# Altium footprint library MP_MB_2015-01-222_B-21.PcbLib: 13 footprints
Each footprint in its own frame and in the unit in brackets; x right, y up, seen from the top. Pads: shape width x height; smd on the part's side, far side on the other; paste and mask are expansions set on the pad; w line width, h text height; cw(c..) or ccw(c..) is an arc to the next point about the centre after c.
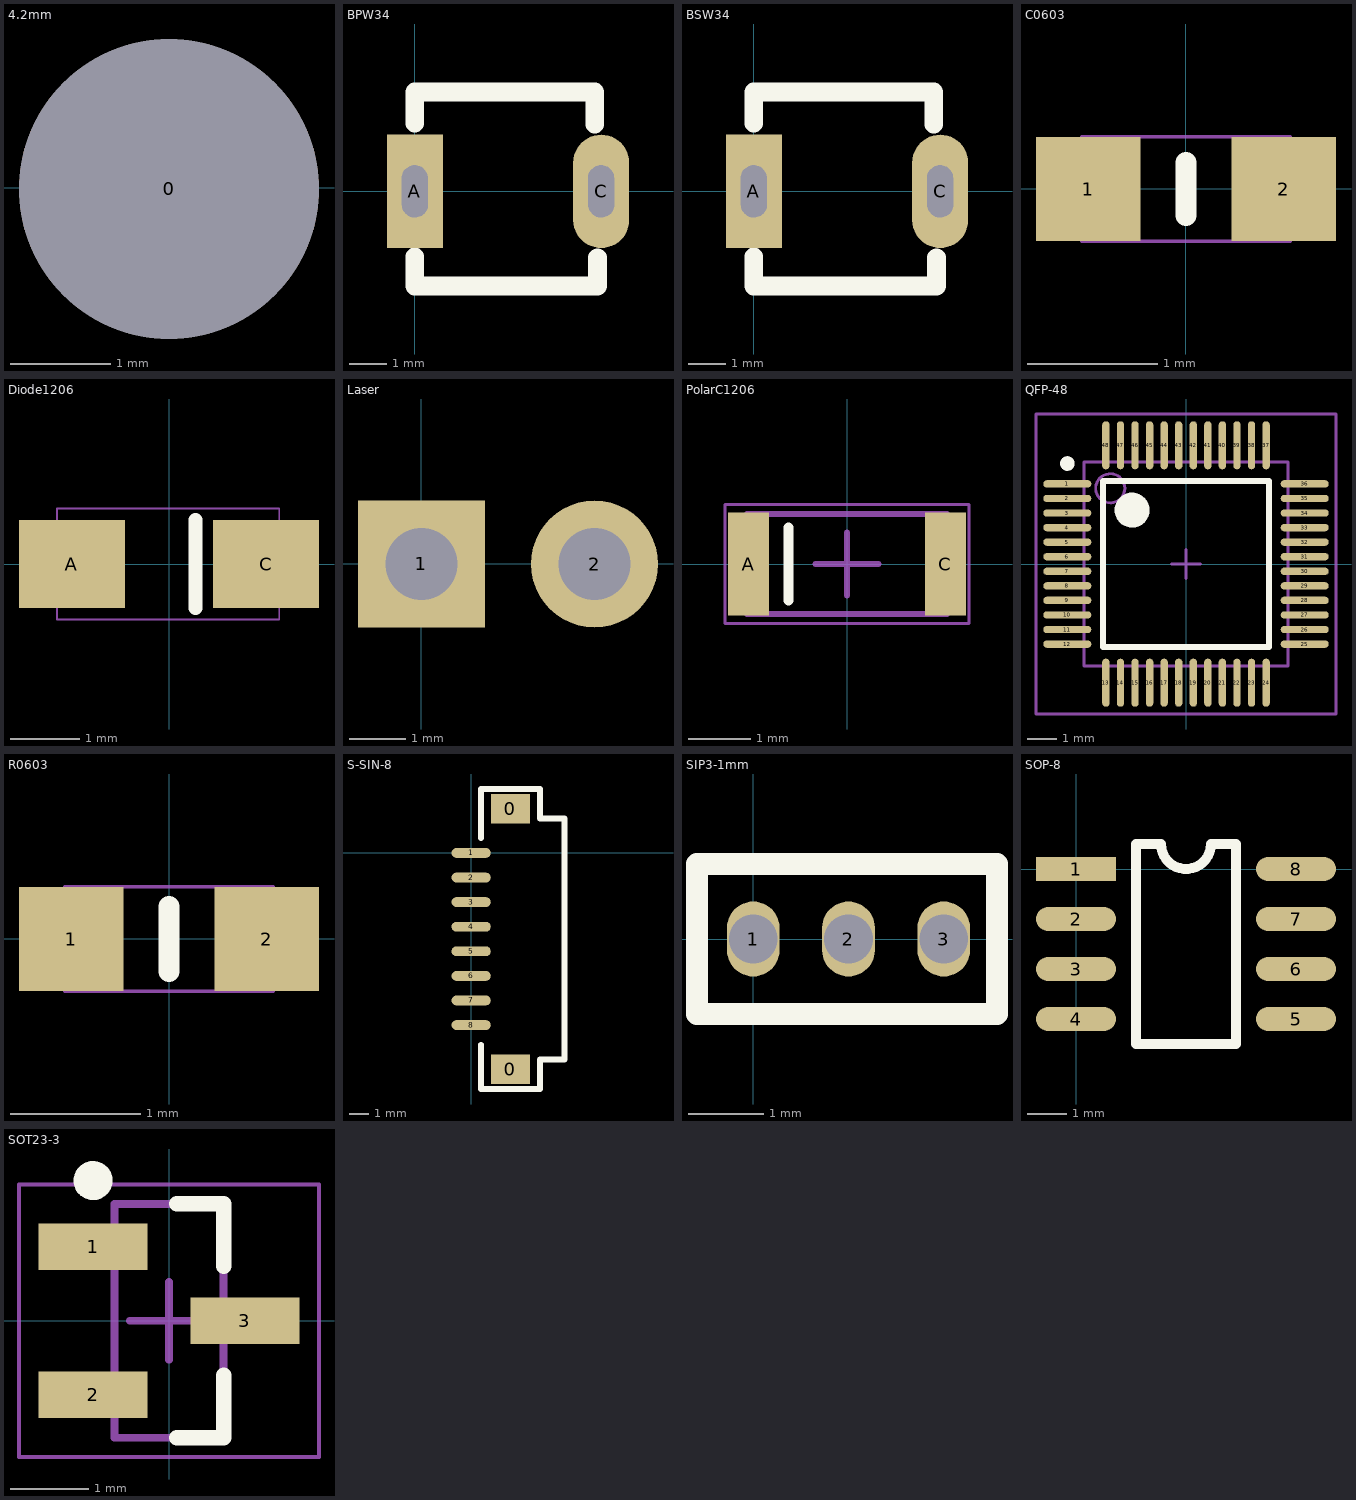
[diagram p0: the footprints below, top view; thin cyan lines are the x and y axes]

## 4.2mm [mm]
pads (1):
  round 3 hole 3: 0(-8.336,-0.013)

## BPW34 [mm]
pads (2):
  rect 1.5x3.048 hole 0.7 slot 1.4 at 90.5 deg: A(0,0)
  oval 1.5x3.048 hole 0.7 slot 1.4 at 90.5 deg: C(5,0)
Top Overlay:
  lines w0.5: 0,-1.753 0,-2.54 4.902,-2.54 4.902,-1.778 ; 0,1.829 0,2.667 4.826,2.667 4.826,1.803

## BSW34 [mm]
pads (2):
  rect 1.5x3.048 hole 0.7 slot 1.4 at 90.5 deg: A(0,0)
  oval 1.5x3.048 hole 0.7 slot 1.4 at 90.5 deg: C(5,0)
Top Overlay:
  lines w0.5: 0,-1.753 0,-2.54 4.902,-2.54 4.902,-1.778 ; 0,1.829 0,2.667 4.826,2.667 4.826,1.803

## C0603 [mm]
pads (2):
  rect 0.8x0.8 smd: 1(-0.75,0) 2(0.75,0)
Top Overlay:
  lines w0.16: 0,-0.203 0,0.203
Mechanical 13:
  lines w0.025: -0.8,-0.4 -0.8,0.4 0.8,0.4 0.8,-0.4 -0.8,-0.4
3D body: height 0.8, standoff 0, extent -0.8,-0.4 0.8,0.4

## Diode1206 [mil]
pads (2):
  rect 60x50 smd: A(-55,0) C(55,0)
Top Overlay:
  lines w7.87: 15,-25 15,25
Mechanical 13:
  lines w1: -63.44,-31.5 -63.44,31.5 62.54,31.5 62.54,-31.5 -63.44,-31.5
3D body: height 62.99, standoff 0, extent -63.44,-31.5 62.54,31.5

## Laser [mil]
pads (2):
  rect 88x88 hole 50: 1(0,0)
  round 88 hole 50: 2(120,0)

## PolarC1206 [mm]
pads (2):
  rect 0.65x1.65 smd: A(-1.575,0) C(1.575,0)
Top Overlay:
  lines w0.16: -0.94,-0.584 -0.94,0.584
Mechanical 13:
  lines w0.1: -1.6,-0.8 1.6,-0.8 1.6,0.8 -1.6,0.8 -1.6,-0.8
Mechanical 15:
  lines w0.05: -1.95,-0.95 1.95,-0.95 1.95,0.95 -1.95,0.95 -1.95,-0.95
  lines w0.1: -0.5,0 0.5,0 ; 0,-0.5 0,0.5
3D body: height 0.6, standoff 0, extent -1.6,-0.8 -1.3,0.8
3D body: height 0.6, standoff 0, extent -1.3,-0.8 1.6,0.8

## QFP-48 [mil] "TSQFP, 48-Leads, Body 9.0x9.0mm (max), Pitch 0.50mm, IPC Medium Density"
height 62.99
pads (48):
  oval 65x10 smd: 1(-160.43,108.27) 2(-160.43,88.58) 3(-160.43,68.9) 4(-160.43,49.21) 5(-160.43,29.53) 6(-160.43,9.84) 7(-160.43,-9.84) 8(-160.43,-29.53) 9(-160.43,-49.21) 10(-160.43,-68.9) 11(-160.43,-88.58) 12(-160.43,-108.27) 25(160.43,-108.27) 26(160.43,-88.58) 27(160.43,-68.9) 28(160.43,-49.21) 29(160.43,-29.53) 30(160.43,-9.84) 31(160.43,9.84) 32(160.43,29.53) 33(160.43,49.21) 34(160.43,68.9) 35(160.43,88.58) 36(160.43,108.27)
  oval 10x65 smd: 13(-108.27,-160.43) 14(-88.58,-160.43) 15(-68.9,-160.43) 16(-49.21,-160.43) 17(-29.53,-160.43) 18(-9.84,-160.43) 19(9.84,-160.43) 20(29.53,-160.43) 21(49.21,-160.43) 22(68.9,-160.43) 23(88.58,-160.43) 24(108.27,-160.43) 37(108.27,160.43) 38(88.58,160.43) 39(68.9,160.43) 40(49.21,160.43) 41(29.53,160.43) 42(9.84,160.43) 43(-9.84,160.43) 44(-29.53,160.43) 45(-49.21,160.43) 46(-68.9,160.43) 47(-88.58,160.43) 48(-108.27,160.43)
Top Overlay:
  circle w9.84: c-160.43,135.83 r4.92
  circle w23.62: c-72.83,72.83 r11.81
  lines w7.87: -112.2,-112.2 -112.2,112.2 112.2,112.2 112.2,-112.2 -112.2,-112.2
Mechanical 13:
  circle w3.94: c-102.36,102.36 r19.68
  lines w3.94: -137.8,-137.8 -137.8,137.8 137.8,137.8 137.8,-137.8 -137.8,-137.8
Mechanical 15:
  lines w3.94: -19.68,0 19.69,0 ; 0,-19.68 0,19.69 ; -202.76,-202.76 -202.76,202.76 202.76,202.76 202.76,-202.76 -202.76,-202.76
3D body: height 59.06, standoff 1.97, extent -137.8,-137.8 137.8,137.8
3D body: height 11.81, standoff 0, extent -187.01,104.33 -135.83,112.2
3D body: height 11.81, standoff 0, extent -187.01,84.65 -135.83,92.52
3D body: height 11.81, standoff 0, extent -187.01,64.96 -135.83,72.83
3D body: height 11.81, standoff 0, extent -187.01,45.28 -135.83,53.15
3D body: height 11.81, standoff 0, extent -187.01,25.59 -135.83,33.46
3D body: height 11.81, standoff 0, extent -187.01,5.91 -135.83,13.78
3D body: height 11.81, standoff 0, extent -187.01,-13.78 -135.83,-5.91
3D body: height 11.81, standoff 0, extent -187.01,-33.46 -135.83,-25.59
3D body: height 11.81, standoff 0, extent -187.01,-53.15 -135.83,-45.28
3D body: height 11.81, standoff 0, extent -187.01,-72.83 -135.83,-64.96
3D body: height 11.81, standoff 0, extent -187.01,-92.52 -135.83,-84.65
3D body: height 11.81, standoff 0, extent -187.01,-112.2 -135.83,-104.33
3D body: height 11.81, standoff 0, extent 135.83,-112.2 187.01,-104.33
3D body: height 11.81, standoff 0, extent 135.83,-92.52 187.01,-84.65
3D body: height 11.81, standoff 0, extent 135.83,-72.83 187.01,-64.96
3D body: height 11.81, standoff 0, extent 135.83,-53.15 187.01,-45.28
3D body: height 11.81, standoff 0, extent 135.83,-33.46 187.01,-25.59
3D body: height 11.81, standoff 0, extent 135.83,-13.78 187.01,-5.91
3D body: height 11.81, standoff 0, extent 135.83,5.91 187.01,13.78
3D body: height 11.81, standoff 0, extent 135.83,25.59 187.01,33.46
3D body: height 11.81, standoff 0, extent 135.83,45.28 187.01,53.15
3D body: height 11.81, standoff 0, extent 135.83,64.96 187.01,72.83
3D body: height 11.81, standoff 0, extent 135.83,84.65 187.01,92.52
3D body: height 11.81, standoff 0, extent 135.83,104.33 187.01,112.2
3D body: height 11.81, standoff 0, extent 104.33,-187.01 112.2,-135.83
3D body: height 11.81, standoff 0, extent 84.65,-187.01 92.52,-135.83
3D body: height 11.81, standoff 0, extent 64.96,-187.01 72.83,-135.83
3D body: height 11.81, standoff 0, extent 45.28,-187.01 53.15,-135.83
3D body: height 11.81, standoff 0, extent 25.59,-187.01 33.46,-135.83
3D body: height 11.81, standoff 0, extent 5.91,-187.01 13.78,-135.83
3D body: height 11.81, standoff 0, extent -13.78,-187.01 -5.91,-135.83
3D body: height 11.81, standoff 0, extent -33.46,-187.01 -25.59,-135.83
3D body: height 11.81, standoff 0, extent -53.15,-187.01 -45.28,-135.83
3D body: height 11.81, standoff 0, extent -72.83,-187.01 -64.96,-135.83
3D body: height 11.81, standoff 0, extent -92.52,-187.01 -84.65,-135.83
3D body: height 11.81, standoff 0, extent -112.2,-187.01 -104.33,-135.83
3D body: height 11.81, standoff 0, extent 104.33,135.83 112.2,187.01
3D body: height 11.81, standoff 0, extent 84.65,135.83 92.52,187.01
3D body: height 11.81, standoff 0, extent 64.96,135.83 72.83,187.01
3D body: height 11.81, standoff 0, extent 45.28,135.83 53.15,187.01
3D body: height 11.81, standoff 0, extent 25.59,135.83 33.46,187.01
3D body: height 11.81, standoff 0, extent 5.91,135.83 13.78,187.01
3D body: height 11.81, standoff 0, extent -13.78,135.83 -5.91,187.01
3D body: height 11.81, standoff 0, extent -33.46,135.83 -25.59,187.01
3D body: height 11.81, standoff 0, extent -53.15,135.83 -45.28,187.01
3D body: height 11.81, standoff 0, extent -72.83,135.83 -64.96,187.01
3D body: height 11.81, standoff 0, extent -92.52,135.83 -84.65,187.01
3D body: height 11.81, standoff 0, extent -112.2,135.83 -104.33,187.01

## R0603 [mm]
pads (2):
  rect 0.8x0.8 smd: 1(-0.75,0) 2(0.75,0)
Top Overlay:
  lines w0.16: 0,-0.25 0,0.25
Mechanical 13:
  lines w0.025: -0.8,-0.4 0.8,-0.4 0.8,0.4 -0.8,0.4 -0.8,-0.4
3D body: height 0.5, standoff 0, extent -0.8,-0.4 0.8,0.4

## S-SIN-8 [mm]
pads (10):
  rect 2x1.5 smd: 0(2,-11) 0(2,2.25)
  oval 2x0.5 smd: 1(0,0) 2(0,-1.25) 3(0,-2.5) 4(0,-3.75) 5(0,-5) 6(0,-6.25) 7(0,-7.5) 8(0,-8.75)
Top Overlay:
  lines w0.3: 0.5,-9.75 0.5,-12 3.5,-12 3.5,-10.5 4.75,-10.5 4.75,1.75 3.5,1.75 3.5,3.25 0.5,3.25 0.5,0.75

## SIP3-1mm [mm]
pads (3):
  oval 0.7x1 hole 0.65: 1(0,0) 2(1.27,0) 3(2.54,0)
Top Overlay:
  lines w0.3: -0.75,-1 -0.75,1 3.25,1 3.25,-1 -0.75,-1

## SOP-8 [mil]
pads (8):
  rect 80x24 smd: 1(0,0)
  oval 80x24 smd: 2(0,-50) 3(0,-100) 4(0,-150) 5(220,-150) 6(220,-100) 7(220,-50) 8(220,0)
Top Overlay:
  lines w10: 60,-175 160,-175 160,25 135,25 cw(c110,25) 85,25 60,25 60,-175

## SOT23-3 [mm]
pads (3):
  rect 1.4x0.6 smd: 1(-0.975,0.95) 2(-0.975,-0.95) 3(0.975,0)
Top Overlay:
  circle w0.25: c-0.975,1.8 r0.125
  lines w0.2: 0.1,-1.5 0.7,-1.5 0.7,-0.7 ; 0.1,1.5 0.7,1.5 0.7,0.7
Mechanical 13:
  lines w0.1: -0.7,-1.5 -0.7,1.5 0.7,1.5 0.7,-1.5 -0.7,-1.5
Mechanical 15:
  lines w0.05: -1.925,-1.75 -1.925,1.75 1.925,1.75 1.925,-1.75 -1.925,-1.75
  lines w0.1: -0.5,0 0.5,0 ; 0,-0.5 0,0.5
3D body: height 1, standoff 0.01, extent -0.7,-1.5 0.7,1.5